# Altium footprint library 8-MSOP.PcbLib: 2 footprints
Each footprint in its own frame and in the unit in brackets; x right, y up, seen from the top. Pads: shape width x height; smd on the part's side, far side on the other; paste and mask are expansions set on the pad; w line width, h text height; cw(c..) or ccw(c..) is an arc to the next point about the centre after c.
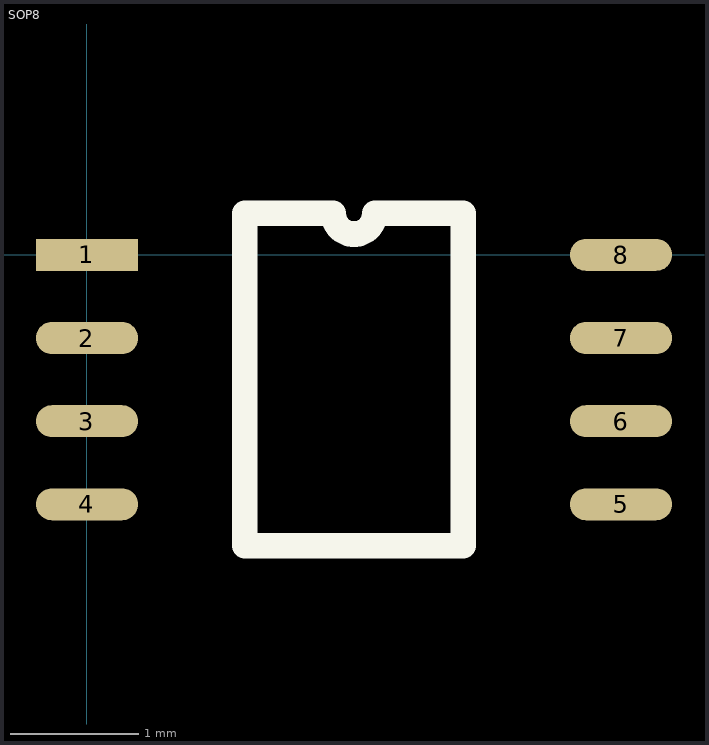
[diagram p0: the footprints below, top view; thin cyan lines are the x and y axes]

## PCBComponent_1 [mm]

## SOP8 [mm]
pads (8):
  rect 0.8x0.25 smd: 1(0,0)
  oval 0.8x0.25 smd: 2(0,-0.65) 3(0,-1.3) 4(0,-1.95) 5(4.175,-1.95) 6(4.175,-1.3) 7(4.175,-0.65) 8(4.175,0)
Top Overlay:
  lines w0.2: 1.235,-2.275 1.235,0.325 1.925,0.325 ccw(c2.087,0.325) 2.25,0.325 2.94,0.325 2.94,-2.275 1.235,-2.275